# Altium footprint library ADAFRUIT_MAX31855_BRKOUT.PcbLib: 1 footprints
Each footprint in its own frame and in the unit in brackets; x right, y up, seen from the top. Pads: shape width x height; smd on the part's side, far side on the other; paste and mask are expansions set on the pad; w line width, h text height; cw(c..) or ccw(c..) is an arc to the next point about the centre after c.
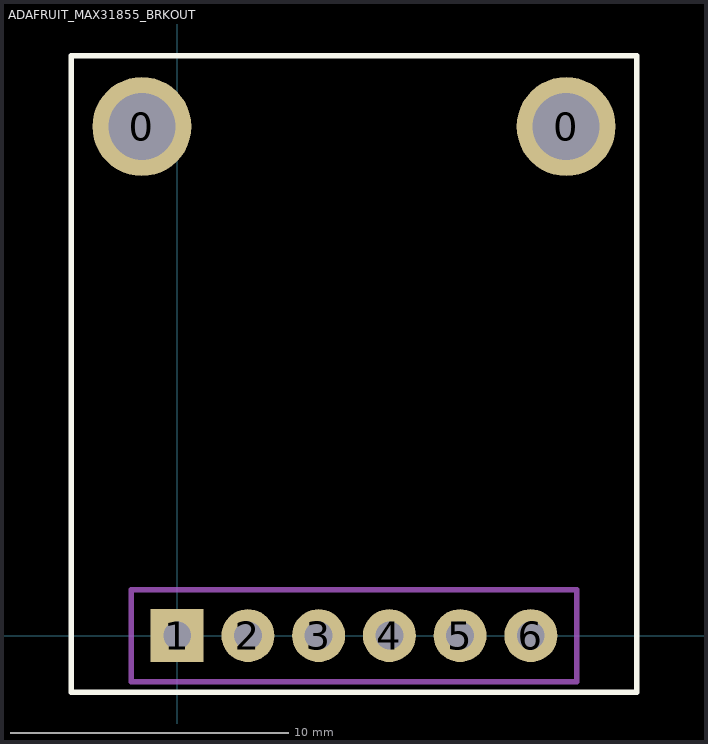
[diagram p0: the footprint, top view; thin cyan lines are the x and y axes]

## ADAFRUIT_MAX31855_BRKOUT [mil]
pads (8):
  round 140 hole 95: 0(-50,720) 0(550,720)
  rect 75x75 hole 39.37: 1(0,0)
  round 75 hole 39.37: 2(100,0) 3(200,0) 4(300,0) 5(400,0) 6(500,0)
Top Overlay:
  lines w7.87: -150,-80 650,-80 650,820 -150,820 -150,-80
Mechanical 13:
  lines w7.87: -65,-65 565,-65 565,65 -65,65 -65,45 -65,-65